# EAGLE library part XZFBBM2ACRDG92W-3 (library XZFBBM2ACRDG92W-3)
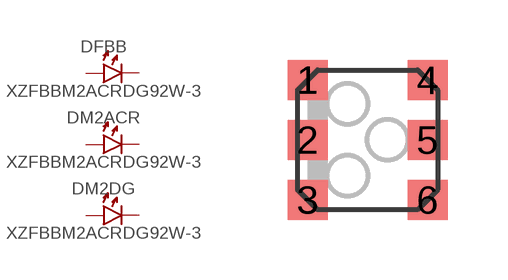
[diagram p0: symbol with the pads of XZFBBM2ACRDG92W-3; footprint XZFBBM2ACRDG92W-3]

Designator prefix D; gates FBB=DIODE-LED M2ACR=DIODE-LED M2DG=DIODE-LED

## XZFBBM2ACRDG92W-3  [XZFBBM2ACRDG92W-3]
1  FBB:A
2  M2ACR:A
3  M2DG:A
4  FBB:K
5  M2ACR:K
6  M2DG:K

## Footprint XZFBBM2ACRDG92W-3 (pad centres in mm)
smd 1 x 1: 1 -1.5,1.5; 2 -1.5,0; 3 -1.5,-1.5; 4 1.5,1.5; 5 1.5,0; 6 1.5,-1.5